# Altium integrated library PIC18F4520-E&slash_P.IntLib: 1 symbol
Pins are listed as number, name and electrical type; pins without a type are passive.

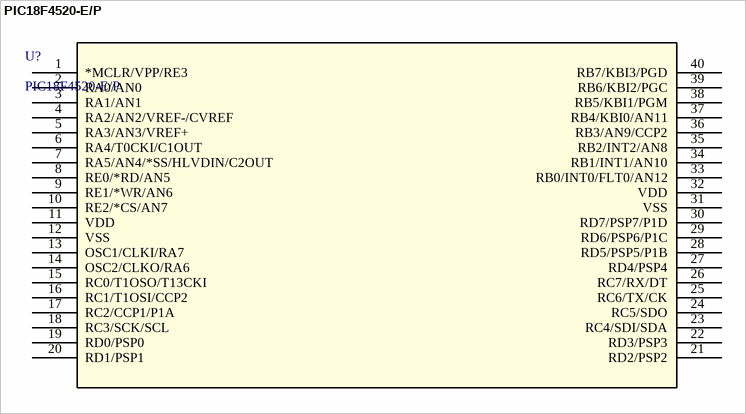
[diagram p0: symbol PIC18F4520-E/P]

## PIC18F4520-E/P
designator U?
No Description Available; Mfr_Name: Microchip; Copyright: Copyright (C) 2022 Ultra Librarian. All rights reserved.; Manufacturer_Part_Number: PIC18F4520-E/P; RefDes: RefDes; Type: DEV
footprint PDIP40_600MC_MCH
pins: 1 *MCLR/VPP/RE3, 2 RA0/AN0, 3 RA1/AN1, 4 RA2/AN2/VREF-/CVREF, 5 RA3/AN3/VREF+, 6 RA4/T0CKI/C1OUT, 7 RA5/AN4/*SS/HLVDIN/C2OUT, 8 RE0/*RD/AN5, 9 RE1/*WR/AN6, 10 RE2/*CS/AN7, 11 VDD, 12 VSS, 13 OSC1/CLKI/RA7, 14 OSC2/CLKO/RA6, 15 RC0/T1OSO/T13CKI, 16 RC1/T1OSI/CCP2, 17 RC2/CCP1/P1A, 18 RC3/SCK/SCL, 19 RD0/PSP0, 20 RD1/PSP1, 21 RD2/PSP2, 22 RD3/PSP3, 23 RC4/SDI/SDA, 24 RC5/SDO, 25 RC6/TX/CK, 26 RC7/RX/DT, 27 RD4/PSP4, 28 RD5/PSP5/P1B, 29 RD6/PSP6/P1C, 30 RD7/PSP7/P1D, 31 VSS, 32 VDD, 33 RB0/INT0/FLT0/AN12, 34 RB1/INT1/AN10, 35 RB2/INT2/AN8, 36 RB3/AN9/CCP2, 37 RB4/KBI0/AN11, 38 RB5/KBI1/PGM, 39 RB6/KBI2/PGC, 40 RB7/KBI3/PGD